# EAGLE library part VC16/2/18 (library HydraSpex)
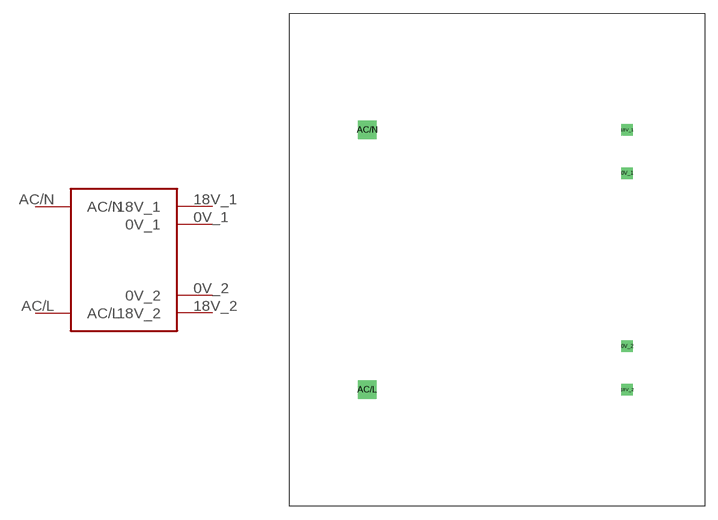
[diagram p0: symbol with the pads of VC16/2/18; footprint VC16/2/18]

Designator prefix -

## VC16/2/18  [VC16/2/18]
0V_1  0V_1
0V_2  0V_2
18V_1  18V_1
18V_2  18V_2
AC/L  AC/L
AC/N  AC/N

## Footprint VC16/2/18 (pad centres in mm)
Block VC16/2/18 DUal 18V 8VA Transformator
drill 0.8 pad 1.27 square: 0V_1 39.21,38.1; 0V_2 39.21,18.1; 18V_1 39.21,43.1; 18V_2 39.21,13.1
drill 0.8 pad 2.184 square: AC/L 9.21,13.1; AC/N 9.21,43.1